# Altium schematic symbol library MCP41HV51-502EST.SchLib: 2 symbols
Pins are listed as number, name and electrical type; pins without a type are passive.

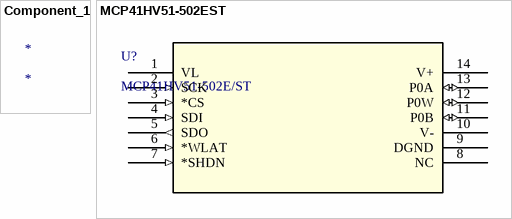
[diagram p0: symbols Component_1 to MCP41HV51-502EST]

## Component_1
designator *

## MCP41HV51-502EST
designator U?, comment MCP41HV51-502E/ST
No Description Available; Manufacturer_Name: Microchip; Copyright: Copyright (C) 2026 Ultra Librarian. All rights reserved.; Manufacturer_Part_Number: MCP41HV51-502E/ST; RefDes: RefDes; Type: Type
footprint TSSOP14_MC_MCH
pins: 1 VL (power), 2 SCK (in), 3 *CS (in), 4 SDI (in), 5 SDO (out), 6 *WLAT (in), 7 *SHDN (in), 8 NC, 9 DGND (power), 10 V- (power), 11 P0B (io), 12 P0W (io), 13 P0A (io), 14 V+ (power)